# EAGLE library part TLC082DGN (library op-amp)
BiMOS OP-AMP - PowerPAD Package Single Supply
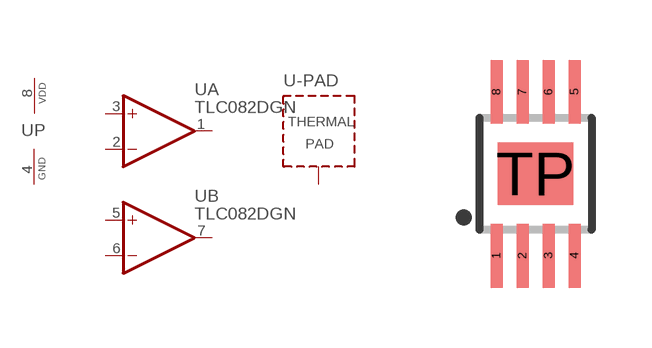
[diagram p10: symbol with the pads of MSOP08-POWERPAD; footprint MSOP08-POWERPAD]

Designator prefix U; gates A=OPAMP_NV B=OPAMP_NV P=PWRN_VDDGND -PAD=THERMAL-PAD

## TLC082DGN  [MSOP08-POWERPAD]
1  A:OUT  out
2  A:-IN  in
3  A:+IN  in
4  P:GND  pwr
5  B:+IN  in
6  B:-IN  in
7  B:OUT  out
8  P:VDD  pwr
TP  -PAD:TP  pwr

## Footprint MSOP08-POWERPAD (pad centres in mm)
MSOP 8 - PowerPAD DGN package, Texas Instruments
smd 0.3 x 1.6: 1 -0.975,-2.05; 2 -0.325,-2.05; 3 0.325,-2.05; 4 0.975,-2.05; 5 0.975,2.05; 6 0.325,2.05; 7 -0.325,2.05; 8 -0.975,2.05
smd 1.89 x 1.57: TP 0,0